# Altium footprint library WR-FPC_1.00mm.PcbLib: 115 footprints (part 6 of 8)
Each footprint in its own frame and in the unit in brackets; x right, y up, seen from the top. Pads: shape width x height; smd on the part's side, far side on the other; paste and mask are expansions set on the pad; w line width, h text height; cw(c..) or ccw(c..) is an arc to the next point about the centre after c.
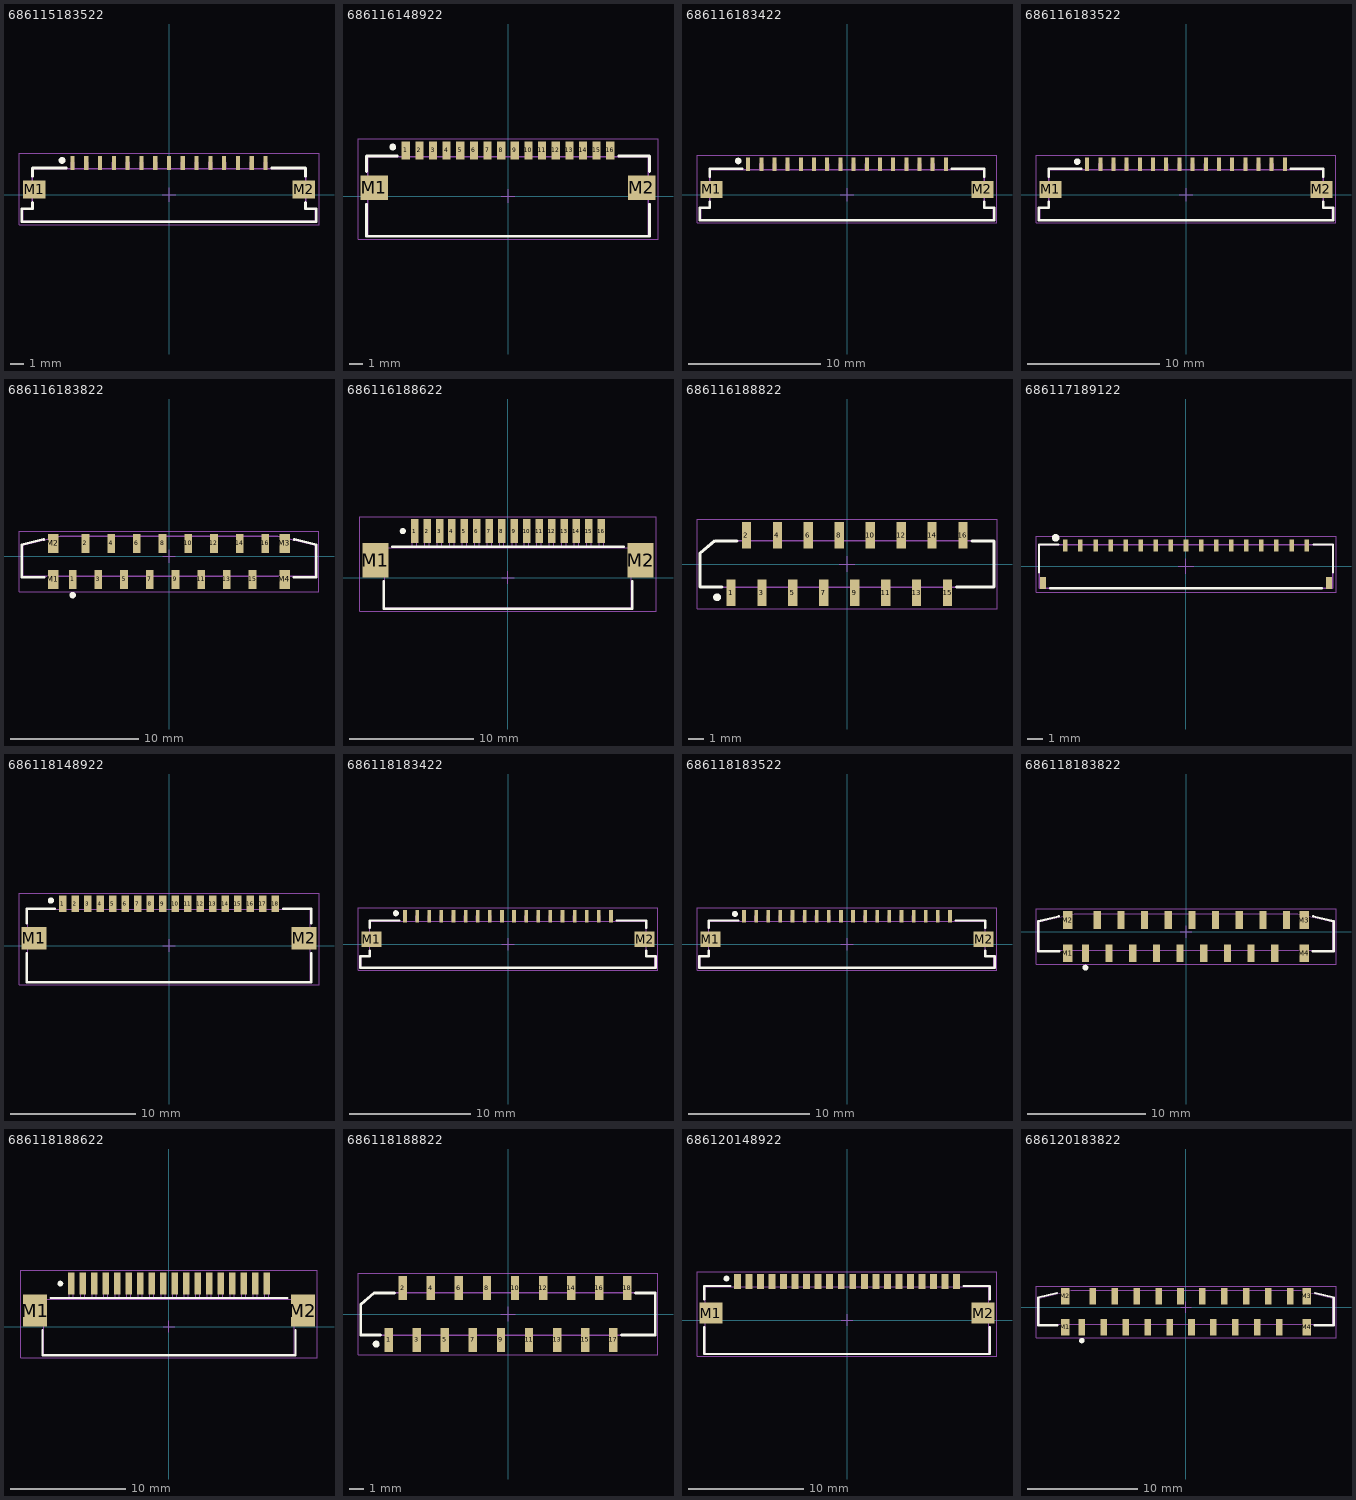
[diagram p5: the footprints below, top view; thin cyan lines are the x and y axes]

## 686115183522 [mm] "ZIF Connectors, Horizontal, Bottom Contact Low Profile, pitch 1mm, 15p"
height 1.3
pads (17):
  rect 0.3x1 smd: 1(-7,2.3) 2(-6,2.3) 3(-5,2.3) 4(-4,2.3) 5(-3,2.3) 6(-2,2.3) 7(-1,2.3) 8(0,2.3) 9(1,2.3) 10(2,2.3) 11(3,2.3) 12(4,2.3) 13(5,2.3) 14(6,2.3) 15(7,2.3)
  rect 1.65x1.3 smd: M1(-9.775,0.4) M2(9.775,0.4)
Top Overlay:
  circle w0.25: c-7.75,2.5 r0.125
  lines w0.2: -9.9,-0.55 -9.9,-1 -10.675,-1 -10.675,-1.95 10.675,-1.95 10.675,-1 9.9,-1 9.9,-0.55 ; -9.9,1.35 -9.9,1.95 -7.45,1.95 ; 7.45,1.95 9.9,1.95 9.9,1.35
Top Designator:
  text ".Designator" at -7.498,-0.5 h1.5
Top Component Outline:
  lines w0.1: -7.1,1.9 -7.1,2.35 -6.9,2.35 -6.9,1.9 ; -6.1,1.9 -6.1,2.35 -5.9,2.35 -5.9,1.9 ; -5.1,1.9 -5.1,2.35 -4.9,2.35 -4.9,1.9 ; -4.1,1.9 -4.1,2.35 -3.9,2.35 -3.9,1.9 ; -3.1,1.9 -3.1,2.35 -2.9,2.35 -2.9,1.9 ; -2.1,1.9 -2.1,2.35 -1.9,2.35 -1.9,1.9 ; -1.1,1.9 -1.1,2.35 -0.9,2.35 -0.9,1.9 ; -0.1,1.9 -0.1,2.35 0.1,2.35 0.1,1.9 ; 0.9,1.9 0.9,2.35 1.1,2.35 1.1,1.9 ; 1.9,1.9 1.9,2.35 2.1,2.35 2.1,1.9 ; 2.9,1.9 2.9,2.35 3.1,2.35 3.1,1.9 ; 3.9,1.9 3.9,2.35 4.1,2.35 4.1,1.9 ; 4.9,1.9 4.9,2.35 5.1,2.35 5.1,1.9 ; 5.9,1.9 5.9,2.35 6.1,2.35 6.1,1.9 ; 6.9,1.9 6.9,2.35 7.1,2.35 7.1,1.9 ; -10.6,-1 -10.6,-1.9 10.6,-1.9 10.6,-1 9.9,-1 9.9,1.9 -9.9,1.9 -9.9,-1 -10.6,-1 ; -10.6,-1 -10.6,-1
Top 3D Body:
  lines w0.1: -7.1,1.9 -7.1,2.35 -6.9,2.35 -6.9,1.9 ; -6.1,1.9 -6.1,2.35 -5.9,2.35 -5.9,1.9 ; -5.1,1.9 -5.1,2.35 -4.9,2.35 -4.9,1.9 ; -4.1,1.9 -4.1,2.35 -3.9,2.35 -3.9,1.9 ; -3.1,1.9 -3.1,2.35 -2.9,2.35 -2.9,1.9 ; -2.1,1.9 -2.1,2.35 -1.9,2.35 -1.9,1.9 ; -1.1,1.9 -1.1,2.35 -0.9,2.35 -0.9,1.9 ; -0.1,1.9 -0.1,2.35 0.1,2.35 0.1,1.9 ; 0.9,1.9 0.9,2.35 1.1,2.35 1.1,1.9 ; 1.9,1.9 1.9,2.35 2.1,2.35 2.1,1.9 ; 2.9,1.9 2.9,2.35 3.1,2.35 3.1,1.9 ; 3.9,1.9 3.9,2.35 4.1,2.35 4.1,1.9 ; 4.9,1.9 4.9,2.35 5.1,2.35 5.1,1.9 ; 5.9,1.9 5.9,2.35 6.1,2.35 6.1,1.9 ; 6.9,1.9 6.9,2.35 7.1,2.35 7.1,1.9 ; -10.6,-1 -9.9,-1 -9.9,1.9 9.9,1.9 9.9,-1 10.6,-1 10.6,-1.9 -10.6,-1.9 -10.6,-1 ; -10.6,-1 -10.6,-1
Top Courtyard:
  lines w0.05: -0.5,0 0.5,0 ; 0,-0.5 0,0.5 ; -10.875,-2.15 -10.875,3 10.875,3 10.875,-2.15 -10.875,-2.15
3D body "686115183522.stp": height 1.24, standoff -0.01, extent -10.6,-1.9 10.6,2.35

## 686116148922 [mm] "ZIF Connectors, Horizontal, Bottom Contact Hinge Type, pitch 1mm, 16p"
height 2.3
pads (18):
  rect 0.6x1.3 smd: 1(-7.5,3.35) 2(-6.5,3.35) 3(-5.5,3.35) 4(-4.5,3.35) 5(-3.5,3.35) 6(-2.5,3.35) 7(-1.5,3.35) 8(-0.5,3.35) 9(0.5,3.35) 10(1.5,3.35) 11(2.5,3.35) 12(3.5,3.35) 13(4.5,3.35) 14(5.5,3.35) 15(6.5,3.35) 16(7.5,3.35)
  rect 2x1.8 smd: M1(-9.8,0.6) M2(9.8,0.6)
Top Overlay:
  circle w0.25: c-8.45,3.6 r0.125
  lines w0.2: -10.375,-0.6 -10.375,-2.95 10.375,-2.95 10.375,-0.6 ; -10.375,1.8 -10.375,2.95 -8.125,2.95 ; 8.125,2.95 10.375,2.95 10.375,1.8
Top Designator:
  text ".Designator" at -7.498,-0.5 h1.5
Top Component Outline:
  lines w0.1: -7.6,2.9 -7.6,3.6 -7.4,3.6 -7.4,2.9 ; -6.6,2.9 -6.6,3.6 -6.4,3.6 -6.4,2.9 ; -5.6,2.9 -5.6,3.6 -5.4,3.6 -5.4,2.9 ; -4.6,2.9 -4.6,3.6 -4.4,3.6 -4.4,2.9 ; -3.6,2.9 -3.6,3.6 -3.4,3.6 -3.4,2.9 ; -2.6,2.9 -2.6,3.6 -2.4,3.6 -2.4,2.9 ; -1.6,2.9 -1.6,3.6 -1.4,3.6 -1.4,2.9 ; -0.6,2.9 -0.6,3.6 -0.4,3.6 -0.4,2.9 ; 0.4,2.9 0.4,3.6 0.6,3.6 0.6,2.9 ; 1.4,2.9 1.4,3.6 1.6,3.6 1.6,2.9 ; 2.4,2.9 2.4,3.6 2.6,3.6 2.6,2.9 ; 3.4,2.9 3.4,3.6 3.6,3.6 3.6,2.9 ; 4.4,2.9 4.4,3.6 4.6,3.6 4.6,2.9 ; 5.4,2.9 5.4,3.6 5.6,3.6 5.6,2.9 ; 6.4,2.9 6.4,3.6 6.6,3.6 6.6,2.9 ; 7.4,2.9 7.4,3.6 7.6,3.6 7.6,2.9 ; -10.3,-2.9 10.3,-2.9 10.3,2.9 -10.3,2.9 -10.3,-2.9
Top 3D Body:
  lines w0.1: -7.6,2.9 -7.6,3.6 -7.4,3.6 -7.4,2.9 ; -6.6,2.9 -6.6,3.6 -6.4,3.6 -6.4,2.9 ; -5.6,2.9 -5.6,3.6 -5.4,3.6 -5.4,2.9 ; -4.6,2.9 -4.6,3.6 -4.4,3.6 -4.4,2.9 ; -3.6,2.9 -3.6,3.6 -3.4,3.6 -3.4,2.9 ; -2.6,2.9 -2.6,3.6 -2.4,3.6 -2.4,2.9 ; -1.6,2.9 -1.6,3.6 -1.4,3.6 -1.4,2.9 ; -0.6,2.9 -0.6,3.6 -0.4,3.6 -0.4,2.9 ; 0.4,2.9 0.4,3.6 0.6,3.6 0.6,2.9 ; 1.4,2.9 1.4,3.6 1.6,3.6 1.6,2.9 ; 2.4,2.9 2.4,3.6 2.6,3.6 2.6,2.9 ; 3.4,2.9 3.4,3.6 3.6,3.6 3.6,2.9 ; 4.4,2.9 4.4,3.6 4.6,3.6 4.6,2.9 ; 5.4,2.9 5.4,3.6 5.6,3.6 5.6,2.9 ; 6.4,2.9 6.4,3.6 6.6,3.6 6.6,2.9 ; 7.4,2.9 7.4,3.6 7.6,3.6 7.6,2.9 ; -10.3,-2.9 -10.3,2.9 10.3,2.9 10.3,-2.9 -10.3,-2.9
Top Courtyard:
  lines w0.05: -0.5,0 0.5,0 ; 0,-0.5 0,0.5 ; -11,-3.15 11,-3.15 11,4.2 -11,4.2 -11,-3.15
3D body "686116148922.stp": height 2.27, standoff 0.02, extent -10.3,-2.9 10.3,3.6

## 686116183422 [mm] "ZIF Connectors, Horizontal, Top Contact Low Profile, pitch 1mm, 16p"
height 1.3
pads (18):
  rect 0.3x1 smd: 1(-7.5,2.3) 2(-6.5,2.3) 3(-5.5,2.3) 4(-4.5,2.3) 5(-3.5,2.3) 6(-2.5,2.3) 7(-1.5,2.3) 8(-0.5,2.3) 9(0.5,2.3) 10(1.5,2.3) 11(2.5,2.3) 12(3.5,2.3) 13(4.5,2.3) 14(5.5,2.3) 15(6.5,2.3) 16(7.5,2.3)
  rect 1.65x1.3 smd: M1(-10.275,0.4) M2(10.275,0.4)
Top Overlay:
  circle w0.25: c-8.25,2.55 r0.125
  lines w0.2: -10.4,-0.55 -10.4,-1 -11.175,-1 -11.175,-1.95 11.175,-1.95 11.175,-1 10.4,-1 10.4,-0.55 ; -10.4,1.35 -10.4,1.95 -7.95,1.95 ; 7.95,1.95 10.4,1.95 10.4,1.35
Top Designator:
  text ".Designator" at -7.498,-0.5 h1.5
Top Component Outline:
  lines w0.1: -7.6,1.9 -7.6,2.35 -7.4,2.35 -7.4,1.9 ; -6.6,1.9 -6.6,2.35 -6.4,2.35 -6.4,1.9 ; -5.6,1.9 -5.6,2.35 -5.4,2.35 -5.4,1.9 ; -4.6,1.9 -4.6,2.35 -4.4,2.35 -4.4,1.9 ; -3.6,1.9 -3.6,2.35 -3.4,2.35 -3.4,1.9 ; -2.6,1.9 -2.6,2.35 -2.4,2.35 -2.4,1.9 ; -1.6,1.9 -1.6,2.35 -1.4,2.35 -1.4,1.9 ; -0.6,1.9 -0.6,2.35 -0.4,2.35 -0.4,1.9 ; 0.4,1.9 0.4,2.35 0.6,2.35 0.6,1.9 ; 1.4,1.9 1.4,2.35 1.6,2.35 1.6,1.9 ; 2.4,1.9 2.4,2.35 2.6,2.35 2.6,1.9 ; 3.4,1.9 3.4,2.35 3.6,2.35 3.6,1.9 ; 4.4,1.9 4.4,2.35 4.6,2.35 4.6,1.9 ; 5.4,1.9 5.4,2.35 5.6,2.35 5.6,1.9 ; 6.4,1.9 6.4,2.35 6.6,2.35 6.6,1.9 ; 7.4,1.9 7.4,2.35 7.6,2.35 7.6,1.9 ; -11.1,-1 -10.4,-1 -10.4,1.9 10.4,1.9 10.4,-1 11.1,-1 11.1,-1.9 -11.1,-1.9 -11.1,-1 ; -11.1,-1 -11.1,-1
Top 3D Body:
  lines w0.1: -7.6,1.9 -7.6,2.35 -7.4,2.35 -7.4,1.9 ; -6.6,1.9 -6.6,2.35 -6.4,2.35 -6.4,1.9 ; -5.6,1.9 -5.6,2.35 -5.4,2.35 -5.4,1.9 ; -4.6,1.9 -4.6,2.35 -4.4,2.35 -4.4,1.9 ; -3.6,1.9 -3.6,2.35 -3.4,2.35 -3.4,1.9 ; -2.6,1.9 -2.6,2.35 -2.4,2.35 -2.4,1.9 ; -1.6,1.9 -1.6,2.35 -1.4,2.35 -1.4,1.9 ; -0.6,1.9 -0.6,2.35 -0.4,2.35 -0.4,1.9 ; 0.4,1.9 0.4,2.35 0.6,2.35 0.6,1.9 ; 1.4,1.9 1.4,2.35 1.6,2.35 1.6,1.9 ; 2.4,1.9 2.4,2.35 2.6,2.35 2.6,1.9 ; 3.4,1.9 3.4,2.35 3.6,2.35 3.6,1.9 ; 4.4,1.9 4.4,2.35 4.6,2.35 4.6,1.9 ; 5.4,1.9 5.4,2.35 5.6,2.35 5.6,1.9 ; 6.4,1.9 6.4,2.35 6.6,2.35 6.6,1.9 ; 7.4,1.9 7.4,2.35 7.6,2.35 7.6,1.9 ; -11.1,-1 -11.1,-1.9 11.1,-1.9 11.1,-1 10.4,-1 10.4,1.9 -10.4,1.9 -10.4,-1 -11.1,-1 ; -11.1,-1 -11.1,-1
Top Courtyard:
  lines w0.05: -0.5,0 0.5,0 ; 0,-0.5 0,0.5 ; -11.375,-2.15 11.375,-2.15 11.375,3 -11.375,3 -11.375,-2.15
3D body "686116183422.stp": height 1.28, standoff -0.01, extent -11.1,-1.9 11.1,2.35

## 686116183522 [mm] "ZIF Connectors, Horizontal, Bottom Contact Low Profile, pitch 1mm, 16p"
height 1.3
pads (18):
  rect 0.3x1 smd: 1(-7.5,2.3) 2(-6.5,2.3) 3(-5.5,2.3) 4(-4.5,2.3) 5(-3.5,2.3) 6(-2.5,2.3) 7(-1.5,2.3) 8(-0.5,2.3) 9(0.5,2.3) 10(1.5,2.3) 11(2.5,2.3) 12(3.5,2.3) 13(4.5,2.3) 14(5.5,2.3) 15(6.5,2.3) 16(7.5,2.3)
  rect 1.65x1.3 smd: M1(-10.275,0.4) M2(10.275,0.4)
Top Overlay:
  circle w0.25: c-8.25,2.5 r0.125
  lines w0.2: -10.4,-0.55 -10.4,-1 -11.175,-1 -11.175,-1.95 11.175,-1.95 11.175,-1 10.4,-1 10.4,-0.55 ; -10.4,1.35 -10.4,1.95 -7.95,1.95 ; 7.95,1.95 10.4,1.95 10.4,1.35
Top Designator:
  text ".Designator" at -7.498,-0.5 h1.5
Top Component Outline:
  lines w0.1: -7.6,1.9 -7.6,2.35 -7.4,2.35 -7.4,1.9 ; -6.6,1.9 -6.6,2.35 -6.4,2.35 -6.4,1.9 ; -5.6,1.9 -5.6,2.35 -5.4,2.35 -5.4,1.9 ; -4.6,1.9 -4.6,2.35 -4.4,2.35 -4.4,1.9 ; -3.6,1.9 -3.6,2.35 -3.4,2.35 -3.4,1.9 ; -2.6,1.9 -2.6,2.35 -2.4,2.35 -2.4,1.9 ; -1.6,1.9 -1.6,2.35 -1.4,2.35 -1.4,1.9 ; -0.6,1.9 -0.6,2.35 -0.4,2.35 -0.4,1.9 ; 0.4,1.9 0.4,2.35 0.6,2.35 0.6,1.9 ; 1.4,1.9 1.4,2.35 1.6,2.35 1.6,1.9 ; 2.4,1.9 2.4,2.35 2.6,2.35 2.6,1.9 ; 3.4,1.9 3.4,2.35 3.6,2.35 3.6,1.9 ; 4.4,1.9 4.4,2.35 4.6,2.35 4.6,1.9 ; 5.4,1.9 5.4,2.35 5.6,2.35 5.6,1.9 ; 6.4,1.9 6.4,2.35 6.6,2.35 6.6,1.9 ; 7.4,1.9 7.4,2.35 7.6,2.35 7.6,1.9 ; -11.1,-1 -11.1,-1.9 11.1,-1.9 11.1,-1 10.4,-1 10.4,1.9 -10.4,1.9 -10.4,-1 -11.1,-1 ; -11.1,-1 -11.1,-1
Top 3D Body:
  lines w0.1: -7.6,1.9 -7.6,2.35 -7.4,2.35 -7.4,1.9 ; -6.6,1.9 -6.6,2.35 -6.4,2.35 -6.4,1.9 ; -5.6,1.9 -5.6,2.35 -5.4,2.35 -5.4,1.9 ; -4.6,1.9 -4.6,2.35 -4.4,2.35 -4.4,1.9 ; -3.6,1.9 -3.6,2.35 -3.4,2.35 -3.4,1.9 ; -2.6,1.9 -2.6,2.35 -2.4,2.35 -2.4,1.9 ; -1.6,1.9 -1.6,2.35 -1.4,2.35 -1.4,1.9 ; -0.6,1.9 -0.6,2.35 -0.4,2.35 -0.4,1.9 ; 0.4,1.9 0.4,2.35 0.6,2.35 0.6,1.9 ; 1.4,1.9 1.4,2.35 1.6,2.35 1.6,1.9 ; 2.4,1.9 2.4,2.35 2.6,2.35 2.6,1.9 ; 3.4,1.9 3.4,2.35 3.6,2.35 3.6,1.9 ; 4.4,1.9 4.4,2.35 4.6,2.35 4.6,1.9 ; 5.4,1.9 5.4,2.35 5.6,2.35 5.6,1.9 ; 6.4,1.9 6.4,2.35 6.6,2.35 6.6,1.9 ; 7.4,1.9 7.4,2.35 7.6,2.35 7.6,1.9 ; -11.1,-1 -10.4,-1 -10.4,1.9 10.4,1.9 10.4,-1 11.1,-1 11.1,-1.9 -11.1,-1.9 -11.1,-1 ; -11.1,-1 -11.1,-1
Top Courtyard:
  lines w0.05: -0.5,0 0.5,0 ; 0,-0.5 0,0.5 ; -11.375,-2.15 -11.375,3 11.375,3 11.375,-2.15 -11.375,-2.15
3D body "686116183522.stp": height 1.24, standoff -0.01, extent -11.1,-1.9 11.1,2.35

## 686116183822 [mm] "ZIF Connectors, Vertical, Type A, pitch 1mm, 16p"
height 4
pads (20):
  rect 0.6x1.5 smd: 1(-7.5,-1.8) 2(-6.5,1) 3(-5.5,-1.8) 4(-4.5,1) 5(-3.5,-1.8) 6(-2.5,1) 7(-1.5,-1.8) 8(-0.5,1) 9(0.5,-1.8) 10(1.5,1) 11(2.5,-1.8) 12(3.5,1) 13(4.5,-1.8) 14(5.5,1) 15(6.5,-1.8) 16(7.5,1)
  rect 0.8x1.5 smd: M1(-9,-1.8) M2(-9,1) M3(9,1) M4(9,-1.8)
Top Overlay:
  circle w0.25: c-7.5,-3.025 r0.125
  lines w0.2: -9.765,1.308 -11.475,0.897 -11.475,-1.625 -9.725,-1.625 ; 9.725,-1.625 11.475,-1.625 11.475,0.897 9.765,1.308
Top Designator:
  text ".Designator" at -7.498,-0.5 h1.5
Top Component Outline:
  lines w0.1: -9.2,-1.55 -9.2,-2.05 -8.8,-2.05 -8.8,-1.55 ; -8.45,1.55 8.45,1.55 11.4,0.84 11.4,-1.55 -11.4,-1.55 -11.4,0.84 -8.45,1.549 ; -7.6,-1.55 -7.6,-2.05 -7.4,-2.05 -7.4,-1.55 ; -5.6,-1.55 -5.6,-2.05 -5.4,-2.05 -5.4,-1.55 ; -3.6,-1.55 -3.6,-2.05 -3.4,-2.05 -3.4,-1.55 ; -1.6,-1.55 -1.6,-2.05 -1.4,-2.05 -1.4,-1.55 ; 0.4,-1.55 0.4,-2.05 0.6,-2.05 0.6,-1.55 ; 2.4,-1.55 2.4,-2.05 2.6,-2.05 2.6,-1.55 ; 4.4,-1.55 4.4,-2.05 4.6,-2.05 4.6,-1.55 ; 6.4,-1.55 6.4,-2.05 6.6,-2.05 6.6,-1.55 ; 8.8,-1.55 8.8,-2.05 9.2,-2.05 9.2,-1.55
Top 3D Body:
  lines w0.1: -9.2,-1.55 -9.2,-2.05 -8.8,-2.05 -8.8,-1.55 ; -8.45,1.55 8.45,1.55 11.4,0.84 11.4,-1.55 -11.4,-1.55 -11.4,0.84 -8.45,1.549 ; -7.6,-1.55 -7.6,-2.05 -7.4,-2.05 -7.4,-1.55 ; -5.6,-1.55 -5.6,-2.05 -5.4,-2.05 -5.4,-1.55 ; -3.6,-1.55 -3.6,-2.05 -3.4,-2.05 -3.4,-1.55 ; -1.6,-1.55 -1.6,-2.05 -1.4,-2.05 -1.4,-1.55 ; 0.4,-1.55 0.4,-2.05 0.6,-2.05 0.6,-1.55 ; 2.4,-1.55 2.4,-2.05 2.6,-2.05 2.6,-1.55 ; 4.4,-1.55 4.4,-2.05 4.6,-2.05 4.6,-1.55 ; 6.4,-1.55 6.4,-2.05 6.6,-2.05 6.6,-1.55 ; 8.8,-1.55 8.8,-2.05 9.2,-2.05 9.2,-1.55
Top Courtyard:
  lines w0.05: -0.5,0 0.5,0 ; 0,-0.5 0,0.5 ; -11.675,-2.75 -11.675,1.95 11.675,1.95 11.675,-2.75 -11.675,-2.75
3D body "686116183822.stp": height 4, standoff -0.02, extent -11.4,-2.05 11.4,1.55

## 686116188622 [mm] "LIF Connectors, Horizontal, Top Contact, pitch 1mm, 16p"
height 3.1
pads (18):
  rect 0.6x1.9 smd: 1(-7.5,3.75) 2(-6.5,3.75) 3(-5.5,3.75) 4(-4.5,3.75) 5(-3.5,3.75) 6(-2.5,3.75) 7(-1.5,3.75) 8(-0.5,3.75) 9(0.5,3.75) 10(1.5,3.75) 11(2.5,3.75) 12(3.5,3.75) 13(4.5,3.75) 14(5.5,3.75) 15(6.5,3.75) 16(7.5,3.75)
  rect 2.1x2.8 smd: M1(-10.65,1.4) M2(10.65,1.4)
Top Overlay:
  circle w0.25: c-8.45,3.75 r0.125
  lines w0.2: -10,-0.3 -10,-2.5 10,-2.5 10,-0.3 ; -9.3,2.5 9.3,2.5
Top Designator:
  text ".Designator" at -7.498,-0.5 h1.5
Top Component Outline:
  lines w0.1: -7.675,2.4 -7.675,4.4 -7.325,4.4 -7.325,2.4 ; -6.675,2.4 -6.675,4.4 -6.325,4.4 -6.325,2.4 ; -5.675,2.4 -5.675,4.4 -5.325,4.4 -5.325,2.4 ; -4.675,2.4 -4.675,4.4 -4.325,4.4 -4.325,2.4 ; -3.675,2.4 -3.675,4.4 -3.325,4.4 -3.325,2.4 ; -2.675,2.4 -2.675,4.4 -2.325,4.4 -2.325,2.4 ; -1.675,2.4 -1.675,4.4 -1.325,4.4 -1.325,2.4 ; -0.675,2.4 -0.675,4.4 -0.325,4.4 -0.325,2.4 ; 0.325,2.4 0.325,4.4 0.675,4.4 0.675,2.4 ; 1.325,2.4 1.325,4.4 1.675,4.4 1.675,2.4 ; 2.325,2.4 2.325,4.4 2.675,4.4 2.675,2.4 ; 3.325,2.4 3.325,4.4 3.675,4.4 3.675,2.4 ; 4.325,2.4 4.325,4.4 4.675,4.4 4.675,2.4 ; 5.325,2.4 5.325,4.4 5.675,4.4 5.675,2.4 ; 6.325,2.4 6.325,4.4 6.675,4.4 6.675,2.4 ; 7.325,2.4 7.325,4.4 7.675,4.4 7.675,2.4 ; -11.15,0.4 -9.9,0.4 -9.9,-2.4 9.9,-2.4 9.9,0.4 11.15,0.4 11.15,2.4 -11.15,2.4 -11.15,0.4
Top 3D Body:
  lines w0.1: -7.675,2.4 -7.675,4.4 -7.325,4.4 -7.325,2.4 ; -6.675,2.4 -6.675,4.4 -6.325,4.4 -6.325,2.4 ; -5.675,2.4 -5.675,4.4 -5.325,4.4 -5.325,2.4 ; -4.675,2.4 -4.675,4.4 -4.325,4.4 -4.325,2.4 ; -3.675,2.4 -3.675,4.4 -3.325,4.4 -3.325,2.4 ; -2.675,2.4 -2.675,4.4 -2.325,4.4 -2.325,2.4 ; -1.675,2.4 -1.675,4.4 -1.325,4.4 -1.325,2.4 ; -0.675,2.4 -0.675,4.4 -0.325,4.4 -0.325,2.4 ; 0.325,2.4 0.325,4.4 0.675,4.4 0.675,2.4 ; 1.325,2.4 1.325,4.4 1.675,4.4 1.675,2.4 ; 2.325,2.4 2.325,4.4 2.675,4.4 2.675,2.4 ; 3.325,2.4 3.325,4.4 3.675,4.4 3.675,2.4 ; 4.325,2.4 4.325,4.4 4.675,4.4 4.675,2.4 ; 5.325,2.4 5.325,4.4 5.675,4.4 5.675,2.4 ; 6.325,2.4 6.325,4.4 6.675,4.4 6.675,2.4 ; 7.325,2.4 7.325,4.4 7.675,4.4 7.675,2.4 ; -11.15,0.4 -11.15,2.4 11.15,2.4 11.15,0.4 9.9,0.4 9.9,-2.4 -9.9,-2.4 -9.9,0.4 -11.15,0.4
Top Courtyard:
  lines w0.05: -0.5,0 0.5,0 ; 0,-0.5 0,0.5 ; -11.9,-2.7 11.9,-2.7 11.9,4.9 -11.9,4.9 -11.9,-2.7
3D body "686116188622.stp": height 3.1, standoff -0.01, extent -11.15,-2.4 11.15,4.4

## 686116188822 [mm] "LIF Connectors, Vertical Type A,  pitch 1mm, 16p"
height 5.1
pads (16):
  rect 0.6x1.7 smd: 1(-7.5,-1.85) 2(-6.5,1.85) 3(-5.5,-1.85) 4(-4.5,1.85) 5(-3.5,-1.85) 6(-2.5,1.85) 7(-1.5,-1.85) 8(-0.5,1.85) 9(0.5,-1.85) 10(1.5,1.85) 11(2.5,-1.85) 12(3.5,1.85) 13(4.5,-1.85) 14(5.5,1.85) 15(6.5,-1.85) 16(7.5,1.85)
Top Overlay:
  circle w0.25: c-8.4,-2.15 r0.125
  lines w0.2: -8.1,-1.5 -9.5,-1.5 -9.5,0.7 -8.547,1.5 -7.1,1.5 ; 7.1,-1.5 9.5,-1.5 9.5,1.5 8.1,1.5
Top Designator:
  text ".Designator" at -7.498,-0.5 h1.5
Top Component Outline:
  lines w0.1: -7.675,-1.5 -7.675,-2.2 -7.325,-2.2 -7.325,-1.5 ; -6.675,1.5 -6.675,2.2 -6.325,2.2 -6.325,1.5 ; -5.675,-1.5 -5.675,-2.2 -5.325,-2.2 -5.325,-1.5 ; -4.675,1.5 -4.675,2.2 -4.325,2.2 -4.325,1.5 ; -3.675,-1.5 -3.675,-2.2 -3.325,-2.2 -3.325,-1.5 ; -2.675,1.5 -2.675,2.2 -2.325,2.2 -2.325,1.5 ; -1.675,-1.5 -1.675,-2.2 -1.325,-2.2 -1.325,-1.5 ; -0.675,1.5 -0.675,2.2 -0.325,2.2 -0.325,1.5 ; 0.325,-1.5 0.325,-2.2 0.675,-2.2 0.675,-1.5 ; 1.325,1.5 1.325,2.2 1.675,2.2 1.675,1.5 ; 2.325,-1.5 2.325,-2.2 2.675,-2.2 2.675,-1.5 ; 3.325,1.5 3.325,2.2 3.675,2.2 3.675,1.5 ; 4.325,-1.5 4.325,-2.2 4.675,-2.2 4.675,-1.5 ; 5.325,1.5 5.325,2.2 5.675,2.2 5.675,1.5 ; 6.325,-1.5 6.325,-2.2 6.675,-2.2 6.675,-1.5 ; 7.325,1.5 7.325,2.2 7.675,2.2 7.675,1.5 ; -9.5,-1.5 9.5,-1.5 9.5,1.5 -8.547,1.5 -9.5,0.7 -9.5,-1.5
Top 3D Body:
  lines w0.1: -7.675,-1.5 -7.675,-2.2 -7.325,-2.2 -7.325,-1.5 ; -6.675,1.5 -6.675,2.2 -6.325,2.2 -6.325,1.5 ; -5.675,-1.5 -5.675,-2.2 -5.325,-2.2 -5.325,-1.5 ; -4.675,1.5 -4.675,2.2 -4.325,2.2 -4.325,1.5 ; -3.675,-1.5 -3.675,-2.2 -3.325,-2.2 -3.325,-1.5 ; -2.675,1.5 -2.675,2.2 -2.325,2.2 -2.325,1.5 ; -1.675,-1.5 -1.675,-2.2 -1.325,-2.2 -1.325,-1.5 ; -0.675,1.5 -0.675,2.2 -0.325,2.2 -0.325,1.5 ; 0.325,-1.5 0.325,-2.2 0.675,-2.2 0.675,-1.5 ; 1.325,1.5 1.325,2.2 1.675,2.2 1.675,1.5 ; 2.325,-1.5 2.325,-2.2 2.675,-2.2 2.675,-1.5 ; 3.325,1.5 3.325,2.2 3.675,2.2 3.675,1.5 ; 4.325,-1.5 4.325,-2.2 4.675,-2.2 4.675,-1.5 ; 5.325,1.5 5.325,2.2 5.675,2.2 5.675,1.5 ; 6.325,-1.5 6.325,-2.2 6.675,-2.2 6.675,-1.5 ; 7.325,1.5 7.325,2.2 7.675,2.2 7.675,1.5 ; -9.5,-1.5 -9.5,0.7 -8.547,1.5 9.5,1.5 9.5,-1.5 -9.5,-1.5
Top Courtyard:
  lines w0.05: -0.5,0 0.5,0 ; 0,-0.5 0,0.5 ; -9.7,-2.9 9.7,-2.9 9.7,2.9 -9.7,2.9 -9.7,-2.9
3D body "686116188822.stp": height 5.21, standoff 0.01, extent -9.5,-2.2 9.5,2.2

## 686117189122 [mm] "SMT ZIF Horizontal Back Locking 1mm, 17p"
height 0.96
pads (19):
  rect 0.3x0.8 smd: 1(-8,1.4) 2(-7,1.4) 3(-6,1.4) 4(-5,1.4) 5(-4,1.4) 6(-3,1.4) 7(-2,1.4) 8(-1,1.4) 9(0,1.4) 10(1,1.4) 11(2,1.4) 12(3,1.4) 13(4,1.4) 14(5,1.4) 15(6,1.4) 16(7,1.4) 17(8,1.4)
  rect 0.4x0.8 smd: M1(-9.5,-1.1) M2(9.5,-1.1)
Top Overlay:
  circle w0.25: c-8.65,1.9 r0.125
  lines w0.15: -9.75,-0.4 -9.75,1.45 -8.45,1.45 ; -9,-1.45 9,-1.45 ; 8.45,1.45 9.75,1.45 9.75,-0.4
Top Designator:
  text ".Designator" at -7.498,-0.5 h1.5
Top Component Outline:
  lines w0.1: -9.75,-1.45 -9.75,1.45 9.75,1.45 9.75,-1.45 -9.75,-1.45
Top 3D Body:
  lines w0.1: -9.75,-1.45 9.75,-1.45 9.75,1.45 -9.75,1.45 -9.75,-1.45
Top Courtyard:
  lines w0.05: -0.5,0 0.5,0 ; 0,-0.5 0,0.5 ; -9.95,-1.7 9.95,-1.7 9.95,2 -9.95,2 -9.95,-1.7
3D body "686117189122.stp": height 1.79, standoff 0.01, extent -9.75,-1.45 9.75,1.652

## 686118148922 [mm] "ZIF Connectors, Horizontal, Bottom Contact Hinge Type, pitch 1mm, 18p"
height 2.3
pads (20):
  rect 0.6x1.3 smd: 1(-8.5,3.35) 2(-7.5,3.35) 3(-6.5,3.35) 4(-5.5,3.35) 5(-4.5,3.35) 6(-3.5,3.35) 7(-2.5,3.35) 8(-1.5,3.35) 9(-0.5,3.35) 10(0.5,3.35) 11(1.5,3.35) 12(2.5,3.35) 13(3.5,3.35) 14(4.5,3.35) 15(5.5,3.35) 16(6.5,3.35) 17(7.5,3.35) 18(8.5,3.35)
  rect 2x1.8 smd: M1(-10.8,0.6) M2(10.8,0.6)
Top Overlay:
  circle w0.25: c-9.45,3.6 r0.125
  lines w0.2: -11.375,-0.6 -11.375,-2.95 11.375,-2.95 11.375,-0.6 ; -11.375,1.8 -11.375,2.95 -9.125,2.95 ; 9.125,2.95 11.375,2.95 11.375,1.8
Top Designator:
  text ".Designator" at -7.498,-0.5 h1.5
Top Component Outline:
  lines w0.1: -8.6,2.9 -8.6,3.6 -8.4,3.6 -8.4,2.9 ; -7.6,2.9 -7.6,3.6 -7.4,3.6 -7.4,2.9 ; -6.6,2.9 -6.6,3.6 -6.4,3.6 -6.4,2.9 ; -5.6,2.9 -5.6,3.6 -5.4,3.6 -5.4,2.9 ; -4.6,2.9 -4.6,3.6 -4.4,3.6 -4.4,2.9 ; -3.6,2.9 -3.6,3.6 -3.4,3.6 -3.4,2.9 ; -2.6,2.9 -2.6,3.6 -2.4,3.6 -2.4,2.9 ; -1.6,2.9 -1.6,3.6 -1.4,3.6 -1.4,2.9 ; -0.6,2.9 -0.6,3.6 -0.4,3.6 -0.4,2.9 ; 0.4,2.9 0.4,3.6 0.6,3.6 0.6,2.9 ; 1.4,2.9 1.4,3.6 1.6,3.6 1.6,2.9 ; 2.4,2.9 2.4,3.6 2.6,3.6 2.6,2.9 ; 3.4,2.9 3.4,3.6 3.6,3.6 3.6,2.9 ; 4.4,2.9 4.4,3.6 4.6,3.6 4.6,2.9 ; 5.4,2.9 5.4,3.6 5.6,3.6 5.6,2.9 ; 6.4,2.9 6.4,3.6 6.6,3.6 6.6,2.9 ; 7.4,2.9 7.4,3.6 7.6,3.6 7.6,2.9 ; 8.4,2.9 8.4,3.6 8.6,3.6 8.6,2.9 ; -11.3,-2.9 -11.3,2.9 11.3,2.9 11.3,-2.9 -11.3,-2.9
Top 3D Body:
  lines w0.1: -8.6,2.9 -8.6,3.6 -8.4,3.6 -8.4,2.9 ; -7.6,2.9 -7.6,3.6 -7.4,3.6 -7.4,2.9 ; -6.6,2.9 -6.6,3.6 -6.4,3.6 -6.4,2.9 ; -5.6,2.9 -5.6,3.6 -5.4,3.6 -5.4,2.9 ; -4.6,2.9 -4.6,3.6 -4.4,3.6 -4.4,2.9 ; -3.6,2.9 -3.6,3.6 -3.4,3.6 -3.4,2.9 ; -2.6,2.9 -2.6,3.6 -2.4,3.6 -2.4,2.9 ; -1.6,2.9 -1.6,3.6 -1.4,3.6 -1.4,2.9 ; -0.6,2.9 -0.6,3.6 -0.4,3.6 -0.4,2.9 ; 0.4,2.9 0.4,3.6 0.6,3.6 0.6,2.9 ; 1.4,2.9 1.4,3.6 1.6,3.6 1.6,2.9 ; 2.4,2.9 2.4,3.6 2.6,3.6 2.6,2.9 ; 3.4,2.9 3.4,3.6 3.6,3.6 3.6,2.9 ; 4.4,2.9 4.4,3.6 4.6,3.6 4.6,2.9 ; 5.4,2.9 5.4,3.6 5.6,3.6 5.6,2.9 ; 6.4,2.9 6.4,3.6 6.6,3.6 6.6,2.9 ; 7.4,2.9 7.4,3.6 7.6,3.6 7.6,2.9 ; 8.4,2.9 8.4,3.6 8.6,3.6 8.6,2.9 ; -11.3,-2.9 11.3,-2.9 11.3,2.9 -11.3,2.9 -11.3,-2.9
Top Courtyard:
  lines w0.05: -0.5,0 0.5,0 ; 0,-0.5 0,0.5 ; -12,-3.15 -12,4.2 12,4.2 12,-3.15 -12,-3.15
3D body "686118148922.stp": height 2.27, standoff 0.02, extent -11.3,-2.9 11.3,3.6

## 686118183422 [mm] "ZIF Connectors, Horizontal, Top Contact Low Profile, pitch 1mm, 18p"
height 1.3
pads (20):
  rect 0.3x1 smd: 1(-8.5,2.3) 2(-7.5,2.3) 3(-6.5,2.3) 4(-5.5,2.3) 5(-4.5,2.3) 6(-3.5,2.3) 7(-2.5,2.3) 8(-1.5,2.3) 9(-0.5,2.3) 10(0.5,2.3) 11(1.5,2.3) 12(2.5,2.3) 13(3.5,2.3) 14(4.5,2.3) 15(5.5,2.3) 16(6.5,2.3) 17(7.5,2.3) 18(8.5,2.3)
  rect 1.65x1.3 smd: M1(-11.275,0.4) M2(11.275,0.4)
Top Overlay:
  circle w0.25: c-9.25,2.55 r0.125
  lines w0.2: -11.4,-0.55 -11.4,-1 -12.175,-1 -12.175,-1.95 12.175,-1.95 12.175,-1 11.4,-1 11.4,-0.55 ; -11.4,1.35 -11.4,1.95 -8.95,1.95 ; 8.95,1.95 11.4,1.95 11.4,1.35
Top Designator:
  text ".Designator" at -7.498,-0.5 h1.5
Top Component Outline:
  lines w0.1: -8.6,1.9 -8.6,2.35 -8.4,2.35 -8.4,1.9 ; -7.6,1.9 -7.6,2.35 -7.4,2.35 -7.4,1.9 ; -6.6,1.9 -6.6,2.35 -6.4,2.35 -6.4,1.9 ; -5.6,1.9 -5.6,2.35 -5.4,2.35 -5.4,1.9 ; -4.6,1.9 -4.6,2.35 -4.4,2.35 -4.4,1.9 ; -3.6,1.9 -3.6,2.35 -3.4,2.35 -3.4,1.9 ; -2.6,1.9 -2.6,2.35 -2.4,2.35 -2.4,1.9 ; -1.6,1.9 -1.6,2.35 -1.4,2.35 -1.4,1.9 ; -0.6,1.9 -0.6,2.35 -0.4,2.35 -0.4,1.9 ; 0.4,1.9 0.4,2.35 0.6,2.35 0.6,1.9 ; 1.4,1.9 1.4,2.35 1.6,2.35 1.6,1.9 ; 2.4,1.9 2.4,2.35 2.6,2.35 2.6,1.9 ; 3.4,1.9 3.4,2.35 3.6,2.35 3.6,1.9 ; 4.4,1.9 4.4,2.35 4.6,2.35 4.6,1.9 ; 5.4,1.9 5.4,2.35 5.6,2.35 5.6,1.9 ; 6.4,1.9 6.4,2.35 6.6,2.35 6.6,1.9 ; 7.4,1.9 7.4,2.35 7.6,2.35 7.6,1.9 ; 8.4,1.9 8.4,2.35 8.6,2.35 8.6,1.9 ; -12.1,-1 -11.4,-1 -11.4,1.9 11.4,1.9 11.4,-1 12.1,-1 12.1,-1.9 -12.1,-1.9 -12.1,-1 ; -12.1,-1 -12.1,-1
Top 3D Body:
  lines w0.1: -8.6,1.9 -8.6,2.35 -8.4,2.35 -8.4,1.9 ; -7.6,1.9 -7.6,2.35 -7.4,2.35 -7.4,1.9 ; -6.6,1.9 -6.6,2.35 -6.4,2.35 -6.4,1.9 ; -5.6,1.9 -5.6,2.35 -5.4,2.35 -5.4,1.9 ; -4.6,1.9 -4.6,2.35 -4.4,2.35 -4.4,1.9 ; -3.6,1.9 -3.6,2.35 -3.4,2.35 -3.4,1.9 ; -2.6,1.9 -2.6,2.35 -2.4,2.35 -2.4,1.9 ; -1.6,1.9 -1.6,2.35 -1.4,2.35 -1.4,1.9 ; -0.6,1.9 -0.6,2.35 -0.4,2.35 -0.4,1.9 ; 0.4,1.9 0.4,2.35 0.6,2.35 0.6,1.9 ; 1.4,1.9 1.4,2.35 1.6,2.35 1.6,1.9 ; 2.4,1.9 2.4,2.35 2.6,2.35 2.6,1.9 ; 3.4,1.9 3.4,2.35 3.6,2.35 3.6,1.9 ; 4.4,1.9 4.4,2.35 4.6,2.35 4.6,1.9 ; 5.4,1.9 5.4,2.35 5.6,2.35 5.6,1.9 ; 6.4,1.9 6.4,2.35 6.6,2.35 6.6,1.9 ; 7.4,1.9 7.4,2.35 7.6,2.35 7.6,1.9 ; 8.4,1.9 8.4,2.35 8.6,2.35 8.6,1.9 ; -12.1,-1 -12.1,-1.9 12.1,-1.9 12.1,-1 11.4,-1 11.4,1.9 -11.4,1.9 -11.4,-1 -12.1,-1 ; -12.1,-1 -12.1,-1
Top Courtyard:
  lines w0.05: -0.5,0 0.5,0 ; 0,-0.5 0,0.5 ; -12.375,-2.15 12.375,-2.15 12.375,3 -12.375,3 -12.375,-2.15
3D body "686118183422.stp": height 1.28, standoff -0.01, extent -12.1,-1.9 12.1,2.35

## 686118183522 [mm] "ZIF Connectors, Horizontal, Bottom Contact Low Profile, pitch 1mm, 18p"
height 1.3
pads (20):
  rect 0.3x1 smd: 1(-8.5,2.3) 2(-7.5,2.3) 3(-6.5,2.3) 4(-5.5,2.3) 5(-4.5,2.3) 6(-3.5,2.3) 7(-2.5,2.3) 8(-1.5,2.3) 9(-0.5,2.3) 10(0.5,2.3) 11(1.5,2.3) 12(2.5,2.3) 13(3.5,2.3) 14(4.5,2.3) 15(5.5,2.3) 16(6.5,2.3) 17(7.5,2.3) 18(8.5,2.3)
  rect 1.65x1.3 smd: M1(-11.275,0.4) M2(11.275,0.4)
Top Overlay:
  circle w0.25: c-9.25,2.5 r0.125
  lines w0.2: -11.4,-0.55 -11.4,-1 -12.175,-1 -12.175,-1.95 12.175,-1.95 12.175,-1 11.4,-1 11.4,-0.55 ; -11.4,1.35 -11.4,1.95 -8.95,1.95 ; 8.95,1.95 11.4,1.95 11.4,1.35
Top Designator:
  text ".Designator" at -7.498,-0.5 h1.5
Top Component Outline:
  lines w0.1: -8.6,1.9 -8.6,2.35 -8.4,2.35 -8.4,1.9 ; -7.6,1.9 -7.6,2.35 -7.4,2.35 -7.4,1.9 ; -6.6,1.9 -6.6,2.35 -6.4,2.35 -6.4,1.9 ; -5.6,1.9 -5.6,2.35 -5.4,2.35 -5.4,1.9 ; -4.6,1.9 -4.6,2.35 -4.4,2.35 -4.4,1.9 ; -3.6,1.9 -3.6,2.35 -3.4,2.35 -3.4,1.9 ; -2.6,1.9 -2.6,2.35 -2.4,2.35 -2.4,1.9 ; -1.6,1.9 -1.6,2.35 -1.4,2.35 -1.4,1.9 ; -0.6,1.9 -0.6,2.35 -0.4,2.35 -0.4,1.9 ; 0.4,1.9 0.4,2.35 0.6,2.35 0.6,1.9 ; 1.4,1.9 1.4,2.35 1.6,2.35 1.6,1.9 ; 2.4,1.9 2.4,2.35 2.6,2.35 2.6,1.9 ; 3.4,1.9 3.4,2.35 3.6,2.35 3.6,1.9 ; 4.4,1.9 4.4,2.35 4.6,2.35 4.6,1.9 ; 5.4,1.9 5.4,2.35 5.6,2.35 5.6,1.9 ; 6.4,1.9 6.4,2.35 6.6,2.35 6.6,1.9 ; 7.4,1.9 7.4,2.35 7.6,2.35 7.6,1.9 ; 8.4,1.9 8.4,2.35 8.6,2.35 8.6,1.9 ; -12.1,-1 -11.4,-1 -11.4,1.9 11.4,1.9 11.4,-1 12.1,-1 12.1,-1.9 -12.1,-1.9 -12.1,-1 ; -12.1,-1 -12.1,-1
Top 3D Body:
  lines w0.1: -8.6,1.9 -8.6,2.35 -8.4,2.35 -8.4,1.9 ; -7.6,1.9 -7.6,2.35 -7.4,2.35 -7.4,1.9 ; -6.6,1.9 -6.6,2.35 -6.4,2.35 -6.4,1.9 ; -5.6,1.9 -5.6,2.35 -5.4,2.35 -5.4,1.9 ; -4.6,1.9 -4.6,2.35 -4.4,2.35 -4.4,1.9 ; -3.6,1.9 -3.6,2.35 -3.4,2.35 -3.4,1.9 ; -2.6,1.9 -2.6,2.35 -2.4,2.35 -2.4,1.9 ; -1.6,1.9 -1.6,2.35 -1.4,2.35 -1.4,1.9 ; -0.6,1.9 -0.6,2.35 -0.4,2.35 -0.4,1.9 ; 0.4,1.9 0.4,2.35 0.6,2.35 0.6,1.9 ; 1.4,1.9 1.4,2.35 1.6,2.35 1.6,1.9 ; 2.4,1.9 2.4,2.35 2.6,2.35 2.6,1.9 ; 3.4,1.9 3.4,2.35 3.6,2.35 3.6,1.9 ; 4.4,1.9 4.4,2.35 4.6,2.35 4.6,1.9 ; 5.4,1.9 5.4,2.35 5.6,2.35 5.6,1.9 ; 6.4,1.9 6.4,2.35 6.6,2.35 6.6,1.9 ; 7.4,1.9 7.4,2.35 7.6,2.35 7.6,1.9 ; 8.4,1.9 8.4,2.35 8.6,2.35 8.6,1.9 ; -12.1,-1 -12.1,-1.9 12.1,-1.9 12.1,-1 11.4,-1 11.4,1.9 -11.4,1.9 -11.4,-1 -12.1,-1 ; -12.1,-1 -12.1,-1
Top Courtyard:
  lines w0.05: -0.5,0 0.5,0 ; 0,-0.5 0,0.5 ; -12.375,-2.15 12.375,-2.15 12.375,3 -12.375,3 -12.375,-2.15
3D body "686118183522.stp": height 1.24, standoff -0.01, extent -12.1,-1.9 12.1,2.35

## 686118183822 [mm] "ZIF Connectors, Vertical, Type A, pitch 1mm, 18p"
height 4
pads (22):
  rect 0.6x1.5 smd: 1(-8.5,-1.8) 2(-7.5,1) 3(-6.5,-1.8) 4(-5.5,1) 5(-4.5,-1.8) 6(-3.5,1) 7(-2.5,-1.8) 8(-1.5,1) 9(-0.5,-1.8) 10(0.5,1) 11(1.5,-1.8) 12(2.5,1) 13(3.5,-1.8) 14(4.5,1) 15(5.5,-1.8) 16(6.5,1) 17(7.5,-1.8) 18(8.5,1)
  rect 0.8x1.5 smd: M1(-10,-1.8) M2(-10,1) M3(10,1) M4(10,-1.8)
Top Overlay:
  circle w0.25: c-8.5,-3.025 r0.125
  lines w0.2: -10.765,1.308 -12.475,0.897 -12.475,-1.625 -10.725,-1.625 ; 10.725,-1.625 12.475,-1.625 12.475,0.897 10.765,1.308
Top Designator:
  text ".Designator" at -7.498,-0.5 h1.5
Top Component Outline:
  lines w0.1: -10.2,-1.55 -10.2,-2.05 -9.8,-2.05 -9.8,-1.55 ; -8.6,-1.55 -8.6,-2.05 -8.4,-2.05 -8.4,-1.55 ; -6.6,-1.55 -6.6,-2.05 -6.4,-2.05 -6.4,-1.55 ; -4.6,-1.55 -4.6,-2.05 -4.4,-2.05 -4.4,-1.55 ; -2.6,-1.55 -2.6,-2.05 -2.4,-2.05 -2.4,-1.55 ; -0.6,-1.55 -0.6,-2.05 -0.4,-2.05 -0.4,-1.55 ; 1.4,-1.55 1.4,-2.05 1.6,-2.05 1.6,-1.55 ; 3.4,-1.55 3.4,-2.05 3.6,-2.05 3.6,-1.55 ; 5.4,-1.55 5.4,-2.05 5.6,-2.05 5.6,-1.55 ; 7.4,-1.55 7.4,-2.05 7.6,-2.05 7.6,-1.55 ; 9.8,-1.55 9.8,-2.05 10.2,-2.05 10.2,-1.55 ; -12.4,-1.55 -12.4,0.84 -9.45,1.549 9.45,1.55 12.4,0.84 12.4,-1.55 -12.4,-1.55
Top 3D Body:
  lines w0.1: -10.2,-1.55 -10.2,-2.05 -9.8,-2.05 -9.8,-1.55 ; -8.6,-1.55 -8.6,-2.05 -8.4,-2.05 -8.4,-1.55 ; -6.6,-1.55 -6.6,-2.05 -6.4,-2.05 -6.4,-1.55 ; -4.6,-1.55 -4.6,-2.05 -4.4,-2.05 -4.4,-1.55 ; -2.6,-1.55 -2.6,-2.05 -2.4,-2.05 -2.4,-1.55 ; -0.6,-1.55 -0.6,-2.05 -0.4,-2.05 -0.4,-1.55 ; 1.4,-1.55 1.4,-2.05 1.6,-2.05 1.6,-1.55 ; 3.4,-1.55 3.4,-2.05 3.6,-2.05 3.6,-1.55 ; 5.4,-1.55 5.4,-2.05 5.6,-2.05 5.6,-1.55 ; 7.4,-1.55 7.4,-2.05 7.6,-2.05 7.6,-1.55 ; 9.8,-1.55 9.8,-2.05 10.2,-2.05 10.2,-1.55 ; -12.4,-1.55 12.4,-1.55 12.4,0.84 9.45,1.549 -9.45,1.55 -12.4,0.84 -12.4,-1.55
Top Courtyard:
  lines w0.05: -0.5,0 0.5,0 ; 0,-0.5 0,0.5 ; -12.675,-2.75 -12.675,1.95 12.675,1.95 12.675,-2.75 -12.675,-2.75
3D body "686118183822.stp": height 4, standoff -0.02, extent -12.4,-2.05 12.4,1.55

## 686118188622 [mm] "LIF Connectors, Horizontal, Top Contact, pitch 1mm, 18p"
height 3.1
pads (20):
  rect 0.6x1.9 smd: 1(-8.5,3.75) 2(-7.5,3.75) 3(-6.5,3.75) 4(-5.5,3.75) 5(-4.5,3.75) 6(-3.5,3.75) 7(-2.5,3.75) 8(-1.5,3.75) 9(-0.5,3.75) 10(0.5,3.75) 11(1.5,3.75) 12(2.5,3.75) 13(3.5,3.75) 14(4.5,3.75) 15(5.5,3.75) 16(6.5,3.75) 17(7.5,3.75) 18(8.5,3.75)
  rect 2.1x2.8 smd: M1(-11.65,1.4) M2(11.65,1.4)
Top Overlay:
  circle w0.25: c-9.45,3.75 r0.125
  lines w0.2: -11,-0.3 -11,-2.5 11,-2.5 11,-0.3 ; -10.3,2.5 10.3,2.5
Top Designator:
  text ".Designator" at -7.498,-0.5 h1.5
Top Component Outline:
  lines w0.1: -8.675,2.4 -8.675,4.4 -8.325,4.4 -8.325,2.4 ; -7.675,2.4 -7.675,4.4 -7.325,4.4 -7.325,2.4 ; -6.675,2.4 -6.675,4.4 -6.325,4.4 -6.325,2.4 ; -5.675,2.4 -5.675,4.4 -5.325,4.4 -5.325,2.4 ; -4.675,2.4 -4.675,4.4 -4.325,4.4 -4.325,2.4 ; -3.675,2.4 -3.675,4.4 -3.325,4.4 -3.325,2.4 ; -2.675,2.4 -2.675,4.4 -2.325,4.4 -2.325,2.4 ; -1.675,2.4 -1.675,4.4 -1.325,4.4 -1.325,2.4 ; -0.675,2.4 -0.675,4.4 -0.325,4.4 -0.325,2.4 ; 0.325,2.4 0.325,4.4 0.675,4.4 0.675,2.4 ; 1.325,2.4 1.325,4.4 1.675,4.4 1.675,2.4 ; 2.325,2.4 2.325,4.4 2.675,4.4 2.675,2.4 ; 3.325,2.4 3.325,4.4 3.675,4.4 3.675,2.4 ; 4.325,2.4 4.325,4.4 4.675,4.4 4.675,2.4 ; 5.325,2.4 5.325,4.4 5.675,4.4 5.675,2.4 ; 6.325,2.4 6.325,4.4 6.675,4.4 6.675,2.4 ; 7.325,2.4 7.325,4.4 7.675,4.4 7.675,2.4 ; 8.325,2.4 8.325,4.4 8.675,4.4 8.675,2.4 ; -12.15,0.4 -10.9,0.4 -10.9,-2.4 10.9,-2.4 10.9,0.4 12.15,0.4 12.15,2.4 -12.15,2.4 -12.15,0.4
Top 3D Body:
  lines w0.1: -8.675,2.4 -8.675,4.4 -8.325,4.4 -8.325,2.4 ; -7.675,2.4 -7.675,4.4 -7.325,4.4 -7.325,2.4 ; -6.675,2.4 -6.675,4.4 -6.325,4.4 -6.325,2.4 ; -5.675,2.4 -5.675,4.4 -5.325,4.4 -5.325,2.4 ; -4.675,2.4 -4.675,4.4 -4.325,4.4 -4.325,2.4 ; -3.675,2.4 -3.675,4.4 -3.325,4.4 -3.325,2.4 ; -2.675,2.4 -2.675,4.4 -2.325,4.4 -2.325,2.4 ; -1.675,2.4 -1.675,4.4 -1.325,4.4 -1.325,2.4 ; -0.675,2.4 -0.675,4.4 -0.325,4.4 -0.325,2.4 ; 0.325,2.4 0.325,4.4 0.675,4.4 0.675,2.4 ; 1.325,2.4 1.325,4.4 1.675,4.4 1.675,2.4 ; 2.325,2.4 2.325,4.4 2.675,4.4 2.675,2.4 ; 3.325,2.4 3.325,4.4 3.675,4.4 3.675,2.4 ; 4.325,2.4 4.325,4.4 4.675,4.4 4.675,2.4 ; 5.325,2.4 5.325,4.4 5.675,4.4 5.675,2.4 ; 6.325,2.4 6.325,4.4 6.675,4.4 6.675,2.4 ; 7.325,2.4 7.325,4.4 7.675,4.4 7.675,2.4 ; 8.325,2.4 8.325,4.4 8.675,4.4 8.675,2.4 ; -12.15,0.4 -12.15,2.4 12.15,2.4 12.15,0.4 10.9,0.4 10.9,-2.4 -10.9,-2.4 -10.9,0.4 -12.15,0.4
Top Courtyard:
  lines w0.05: -0.5,0 0.5,0 ; 0,-0.5 0,0.5 ; -12.9,-2.7 12.9,-2.7 12.9,4.9 -12.9,4.9 -12.9,-2.7
3D body "686118188622.stp": height 3.1, standoff -0.01, extent -12.15,-2.4 12.15,4.4

## 686118188822 [mm] "LIF Connectors, Vertical Type A,  pitch 1mm, 18p"
height 5.1
pads (18):
  rect 0.6x1.7 smd: 1(-8.5,-1.85) 2(-7.5,1.85) 3(-6.5,-1.85) 4(-5.5,1.85) 5(-4.5,-1.85) 6(-3.5,1.85) 7(-2.5,-1.85) 8(-1.5,1.85) 9(-0.5,-1.85) 10(0.5,1.85) 11(1.5,-1.85) 12(2.5,1.85) 13(3.5,-1.85) 14(4.5,1.85) 15(5.5,-1.85) 16(6.5,1.85) 17(7.5,-1.85) 18(8.5,1.85)
Top Overlay:
  circle w0.25: c-9.4,-2.15 r0.125
  lines w0.2: -9.1,-1.5 -10.5,-1.5 -10.5,0.7 -9.547,1.5 -8.1,1.5 ; 8.1,-1.5 10.5,-1.5 10.5,1.5 9.1,1.5
Top Designator:
  text ".Designator" at -7.498,-0.5 h1.5
Top Component Outline:
  lines w0.1: -8.675,-1.5 -8.675,-2.2 -8.325,-2.2 -8.325,-1.5 ; -7.675,1.5 -7.675,2.2 -7.325,2.2 -7.325,1.5 ; -6.675,-1.5 -6.675,-2.2 -6.325,-2.2 -6.325,-1.5 ; -5.675,1.5 -5.675,2.2 -5.325,2.2 -5.325,1.5 ; -4.675,-1.5 -4.675,-2.2 -4.325,-2.2 -4.325,-1.5 ; -3.675,1.5 -3.675,2.2 -3.325,2.2 -3.325,1.5 ; -2.675,-1.5 -2.675,-2.2 -2.325,-2.2 -2.325,-1.5 ; -1.675,1.5 -1.675,2.2 -1.325,2.2 -1.325,1.5 ; -0.675,-1.5 -0.675,-2.2 -0.325,-2.2 -0.325,-1.5 ; 0.325,1.5 0.325,2.2 0.675,2.2 0.675,1.5 ; 1.325,-1.5 1.325,-2.2 1.675,-2.2 1.675,-1.5 ; 2.325,1.5 2.325,2.2 2.675,2.2 2.675,1.5 ; 3.325,-1.5 3.325,-2.2 3.675,-2.2 3.675,-1.5 ; 4.325,1.5 4.325,2.2 4.675,2.2 4.675,1.5 ; 5.325,-1.5 5.325,-2.2 5.675,-2.2 5.675,-1.5 ; 6.325,1.5 6.325,2.2 6.675,2.2 6.675,1.5 ; 7.325,-1.5 7.325,-2.2 7.675,-2.2 7.675,-1.5 ; 8.325,1.5 8.325,2.2 8.675,2.2 8.675,1.5 ; -10.5,-1.5 10.5,-1.5 10.5,1.5 -9.547,1.5 -10.5,0.7 -10.5,-1.5
Top 3D Body:
  lines w0.1: -8.675,-1.5 -8.675,-2.2 -8.325,-2.2 -8.325,-1.5 ; -7.675,1.5 -7.675,2.2 -7.325,2.2 -7.325,1.5 ; -6.675,-1.5 -6.675,-2.2 -6.325,-2.2 -6.325,-1.5 ; -5.675,1.5 -5.675,2.2 -5.325,2.2 -5.325,1.5 ; -4.675,-1.5 -4.675,-2.2 -4.325,-2.2 -4.325,-1.5 ; -3.675,1.5 -3.675,2.2 -3.325,2.2 -3.325,1.5 ; -2.675,-1.5 -2.675,-2.2 -2.325,-2.2 -2.325,-1.5 ; -1.675,1.5 -1.675,2.2 -1.325,2.2 -1.325,1.5 ; -0.675,-1.5 -0.675,-2.2 -0.325,-2.2 -0.325,-1.5 ; 0.325,1.5 0.325,2.2 0.675,2.2 0.675,1.5 ; 1.325,-1.5 1.325,-2.2 1.675,-2.2 1.675,-1.5 ; 2.325,1.5 2.325,2.2 2.675,2.2 2.675,1.5 ; 3.325,-1.5 3.325,-2.2 3.675,-2.2 3.675,-1.5 ; 4.325,1.5 4.325,2.2 4.675,2.2 4.675,1.5 ; 5.325,-1.5 5.325,-2.2 5.675,-2.2 5.675,-1.5 ; 6.325,1.5 6.325,2.2 6.675,2.2 6.675,1.5 ; 7.325,-1.5 7.325,-2.2 7.675,-2.2 7.675,-1.5 ; 8.325,1.5 8.325,2.2 8.675,2.2 8.675,1.5 ; -10.5,-1.5 -10.5,0.7 -9.547,1.5 10.5,1.5 10.5,-1.5 -10.5,-1.5
Top Courtyard:
  lines w0.05: -0.5,0 0.5,0 ; 0,-0.5 0,0.5 ; -10.7,-2.9 10.7,-2.9 10.7,2.9 -10.7,2.9 -10.7,-2.9
3D body "686118188822.stp": height 5.21, standoff 0.01, extent -10.5,-2.2 10.5,2.2

## 686120148922 [mm] "ZIF Connectors, Horizontal, Bottom Contact Hinge Type, pitch 1mm, 20p"
height 2.3
pads (22):
  rect 0.6x1.3 smd: 1(-9.5,3.35) 2(-8.5,3.35) 3(-7.5,3.35) 4(-6.5,3.35) 5(-5.5,3.35) 6(-4.5,3.35) 7(-3.5,3.35) 8(-2.5,3.35) 9(-1.5,3.35) 10(-0.5,3.35) 11(0.5,3.35) 12(1.5,3.35) 13(2.5,3.35) 14(3.5,3.35) 15(4.5,3.35) 16(5.5,3.35) 17(6.5,3.35) 18(7.5,3.35) 19(8.5,3.35) 20(9.5,3.35)
  rect 2x1.8 smd: M1(-11.8,0.6) M2(11.8,0.6)
Top Overlay:
  circle w0.25: c-10.45,3.6 r0.125
  lines w0.2: -12.375,-0.6 -12.375,-2.95 12.375,-2.95 12.375,-0.6 ; -12.375,1.8 -12.375,2.95 -10.125,2.95 ; 10.125,2.95 12.375,2.95 12.375,1.8
Top Designator:
  text ".Designator" at -7.498,-0.5 h1.5
Top Component Outline:
  lines w0.1: -9.6,2.9 -9.6,3.6 -9.4,3.6 -9.4,2.9 ; -8.6,2.9 -8.6,3.6 -8.4,3.6 -8.4,2.9 ; -7.6,2.9 -7.6,3.6 -7.4,3.6 -7.4,2.9 ; -6.6,2.9 -6.6,3.6 -6.4,3.6 -6.4,2.9 ; -5.6,2.9 -5.6,3.6 -5.4,3.6 -5.4,2.9 ; -4.6,2.9 -4.6,3.6 -4.4,3.6 -4.4,2.9 ; -3.6,2.9 -3.6,3.6 -3.4,3.6 -3.4,2.9 ; -2.6,2.9 -2.6,3.6 -2.4,3.6 -2.4,2.9 ; -1.6,2.9 -1.6,3.6 -1.4,3.6 -1.4,2.9 ; -0.6,2.9 -0.6,3.6 -0.4,3.6 -0.4,2.9 ; 0.4,2.9 0.4,3.6 0.6,3.6 0.6,2.9 ; 1.4,2.9 1.4,3.6 1.6,3.6 1.6,2.9 ; 2.4,2.9 2.4,3.6 2.6,3.6 2.6,2.9 ; 3.4,2.9 3.4,3.6 3.6,3.6 3.6,2.9 ; 4.4,2.9 4.4,3.6 4.6,3.6 4.6,2.9 ; 5.4,2.9 5.4,3.6 5.6,3.6 5.6,2.9 ; 6.4,2.9 6.4,3.6 6.6,3.6 6.6,2.9 ; 7.4,2.9 7.4,3.6 7.6,3.6 7.6,2.9 ; 8.4,2.9 8.4,3.6 8.6,3.6 8.6,2.9 ; 9.4,2.9 9.4,3.6 9.6,3.6 9.6,2.9 ; -12.3,-2.9 12.3,-2.9 12.3,2.9 -12.3,2.9 -12.3,-2.9
Top 3D Body:
  lines w0.1: -9.6,2.9 -9.6,3.6 -9.4,3.6 -9.4,2.9 ; -8.6,2.9 -8.6,3.6 -8.4,3.6 -8.4,2.9 ; -7.6,2.9 -7.6,3.6 -7.4,3.6 -7.4,2.9 ; -6.6,2.9 -6.6,3.6 -6.4,3.6 -6.4,2.9 ; -5.6,2.9 -5.6,3.6 -5.4,3.6 -5.4,2.9 ; -4.6,2.9 -4.6,3.6 -4.4,3.6 -4.4,2.9 ; -3.6,2.9 -3.6,3.6 -3.4,3.6 -3.4,2.9 ; -2.6,2.9 -2.6,3.6 -2.4,3.6 -2.4,2.9 ; -1.6,2.9 -1.6,3.6 -1.4,3.6 -1.4,2.9 ; -0.6,2.9 -0.6,3.6 -0.4,3.6 -0.4,2.9 ; 0.4,2.9 0.4,3.6 0.6,3.6 0.6,2.9 ; 1.4,2.9 1.4,3.6 1.6,3.6 1.6,2.9 ; 2.4,2.9 2.4,3.6 2.6,3.6 2.6,2.9 ; 3.4,2.9 3.4,3.6 3.6,3.6 3.6,2.9 ; 4.4,2.9 4.4,3.6 4.6,3.6 4.6,2.9 ; 5.4,2.9 5.4,3.6 5.6,3.6 5.6,2.9 ; 6.4,2.9 6.4,3.6 6.6,3.6 6.6,2.9 ; 7.4,2.9 7.4,3.6 7.6,3.6 7.6,2.9 ; 8.4,2.9 8.4,3.6 8.6,3.6 8.6,2.9 ; 9.4,2.9 9.4,3.6 9.6,3.6 9.6,2.9 ; -12.3,-2.9 -12.3,2.9 12.3,2.9 12.3,-2.9 -12.3,-2.9
Top Courtyard:
  lines w0.05: -0.5,0 0.5,0 ; 0,-0.5 0,0.5 ; -13,-3.15 13,-3.15 13,4.2 -13,4.2 -13,-3.15
3D body "686120148922.stp": height 2.27, standoff 0.02, extent -12.3,-2.9 12.3,3.6

## 686120183822 [mm] "ZIF Connectors, Vertical, Type A, pitch 1mm, 20p"
height 4
pads (24):
  rect 0.6x1.5 smd: 1(-9.5,-1.8) 2(-8.5,1) 3(-7.5,-1.8) 4(-6.5,1) 5(-5.5,-1.8) 6(-4.5,1) 7(-3.5,-1.8) 8(-2.5,1) 9(-1.5,-1.8) 10(-0.5,1) 11(0.5,-1.8) 12(1.5,1) 13(2.5,-1.8) 14(3.5,1) 15(4.5,-1.8) 16(5.5,1) 17(6.5,-1.8) 18(7.5,1) 19(8.5,-1.8) 20(9.5,1)
  rect 0.8x1.5 smd: M1(-11,-1.8) M2(-11,1) M3(11,1) M4(11,-1.8)
Top Overlay:
  circle w0.25: c-9.5,-3.025 r0.125
  lines w0.2: -11.765,1.308 -13.475,0.897 -13.475,-1.625 -11.725,-1.625 ; 11.725,-1.625 13.475,-1.625 13.475,0.897 11.765,1.308
Top Designator:
  text ".Designator" at -7.498,-0.5 h1.5
Top Component Outline:
  lines w0.1: -11.2,-1.55 -11.2,-2.05 -10.8,-2.05 -10.8,-1.55 ; -9.6,-1.55 -9.6,-2.05 -9.4,-2.05 -9.4,-1.55 ; -7.6,-1.55 -7.6,-2.05 -7.4,-2.05 -7.4,-1.55 ; -5.6,-1.55 -5.6,-2.05 -5.4,-2.05 -5.4,-1.55 ; -3.6,-1.55 -3.6,-2.05 -3.4,-2.05 -3.4,-1.55 ; -1.6,-1.55 -1.6,-2.05 -1.4,-2.05 -1.4,-1.55 ; 0.4,-1.55 0.4,-2.05 0.6,-2.05 0.6,-1.55 ; 2.4,-1.55 2.4,-2.05 2.6,-2.05 2.6,-1.55 ; 4.4,-1.55 4.4,-2.05 4.6,-2.05 4.6,-1.55 ; 6.4,-1.55 6.4,-2.05 6.6,-2.05 6.6,-1.55 ; 8.4,-1.55 8.4,-2.05 8.6,-2.05 8.6,-1.55 ; 10.8,-1.55 10.8,-2.05 11.2,-2.05 11.2,-1.55 ; -13.4,-1.55 13.4,-1.55 13.4,0.84 10.45,1.549 -10.45,1.55 -13.4,0.84 -13.4,-1.55
Top 3D Body:
  lines w0.1: -11.2,-1.55 -11.2,-2.05 -10.8,-2.05 -10.8,-1.55 ; -9.6,-1.55 -9.6,-2.05 -9.4,-2.05 -9.4,-1.55 ; -7.6,-1.55 -7.6,-2.05 -7.4,-2.05 -7.4,-1.55 ; -5.6,-1.55 -5.6,-2.05 -5.4,-2.05 -5.4,-1.55 ; -3.6,-1.55 -3.6,-2.05 -3.4,-2.05 -3.4,-1.55 ; -1.6,-1.55 -1.6,-2.05 -1.4,-2.05 -1.4,-1.55 ; 0.4,-1.55 0.4,-2.05 0.6,-2.05 0.6,-1.55 ; 2.4,-1.55 2.4,-2.05 2.6,-2.05 2.6,-1.55 ; 4.4,-1.55 4.4,-2.05 4.6,-2.05 4.6,-1.55 ; 6.4,-1.55 6.4,-2.05 6.6,-2.05 6.6,-1.55 ; 8.4,-1.55 8.4,-2.05 8.6,-2.05 8.6,-1.55 ; 10.8,-1.55 10.8,-2.05 11.2,-2.05 11.2,-1.55 ; -13.4,-1.55 -13.4,0.84 -10.45,1.549 10.45,1.55 13.4,0.84 13.4,-1.55 -13.4,-1.55
Top Courtyard:
  lines w0.05: -0.5,0 0.5,0 ; 0,-0.5 0,0.5 ; -13.675,-2.75 13.675,-2.75 13.675,1.95 -13.675,1.95 -13.675,-2.75
3D body "686120183822.stp": height 4, standoff -0.02, extent -13.4,-2.05 13.4,1.55